# EAGLE library part CD4051BE (library CD4051BE)
TEXAS INSTRUMENTS - CD4051BE - MULTIPLEXER, 8 CHANNEL, 16DIP Source: Datasheet <http://www.ti.com/lit/ds/symlink/cd4051b.pdf>
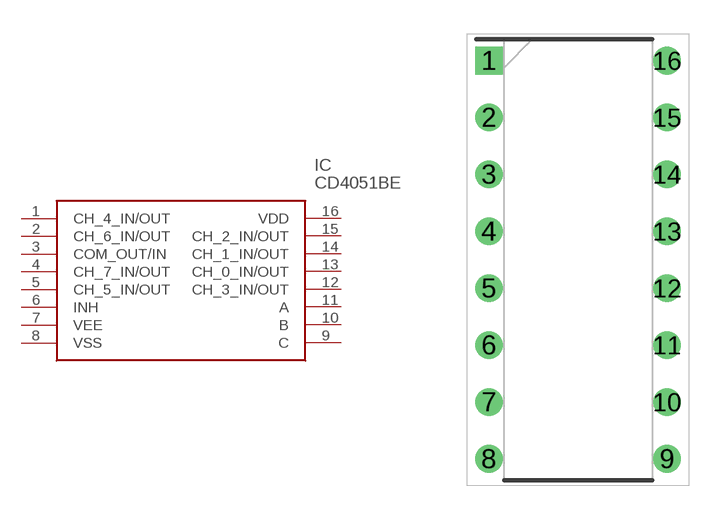
[diagram p0: symbol with the pads of DIP794W53P254L1930H508Q16N; footprint DIP794W53P254L1930H508Q16N]

Designator prefix IC

## CD4051BE (Description: TEXAS INSTRUMENTS - CD4051BE - MULTIPLEXER, 8 CHANNEL, 16DIP; Height: 5.08mm; Manufacturer_Name: Texas Instruments; Manufacturer_Part_Number: CD4051BE; Mouser_Part_Number: 595-CD4051BE; Mouser_Price-Stock: https://www.mouser.co.uk/ProductDetail/Texas-Instruments/CD4051BE?qs=q2XTDbzbm6DxulBsMcV7tA%3D%3D)  [DIP794W53P254L1930H508Q16N]
1  CH_4_IN/OUT
2  CH_6_IN/OUT
3  COM_OUT/IN
4  CH_7_IN/OUT
5  CH_5_IN/OUT
6  INH
7  VEE
8  VSS
9  C
10  B
11  A
12  CH_3_IN/OUT
13  CH_0_IN/OUT
14  CH_1_IN/OUT
15  CH_2_IN/OUT
16  VDD

## Footprint DIP794W53P254L1930H508Q16N (pad centres in mm)
N (R-PDIP-T16)
drill 0.73 pad 1.13 square: 1 -3.97,8.89
drill 0.73 pad 1.13: 2 -3.97,6.35; 3 -3.97,3.81; 4 -3.97,1.27; 5 -3.97,-1.27; 6 -3.97,-3.81; 7 -3.97,-6.35; 8 -3.97,-8.89; 9 3.97,-8.89; 10 3.97,-6.35; 11 3.97,-3.81; 12 3.97,-1.27; 13 3.97,1.27; 14 3.97,3.81; 15 3.97,6.35; 16 3.97,8.89